# Altium schematic symbol library RGB LED SLV6A.SchLib: 1 symbol
Pins are listed as number, name and electrical type; pins without a type are passive.

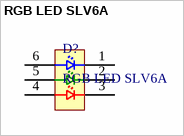
[diagram p0: symbol RGB LED SLV6A]

## RGB LED SLV6A
designator D?
Cree SLV6A
pins: 1 C1, 2 C2, 3 C3, 4 A3, 5 A2, 6 A1